# Altium footprint library WE-SUKW.PcbLib: 2 footprints
Each footprint in its own frame and in the unit in brackets; x right, y up, seen from the top. Pads: shape width x height; smd on the part's side, far side on the other; paste and mask are expansions set on the pad; w line width, h text height; cw(c..) or ccw(c..) is an arc to the next point about the centre after c.
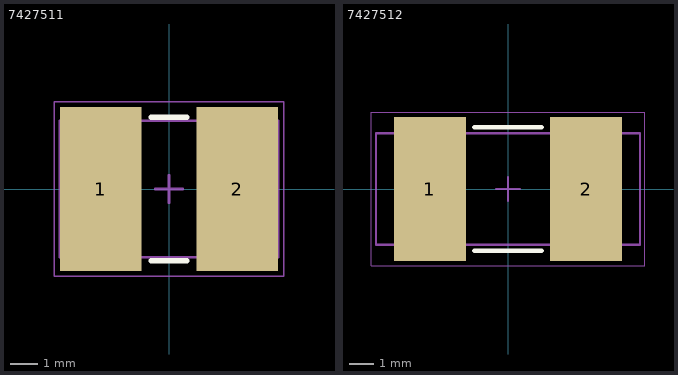
[diagram p0: the footprints below, top view; thin cyan lines are the x and y axes]

## 7427511 [mm] "SMD EMI Suppression Ferrite Bead, body 8.00x5.00mm"
height 5.1
pads (2):
  rect 3x6 smd: 1(-2.5,0) 2(2.5,0)
Top Overlay:
  lines w0.2: -0.65,-2.625 0.65,-2.625 ; -0.65,2.625 0.65,2.625
Top Assembly:
  lines w0.1: -4,-2.5 -4,2.5 4,2.5 4,-2.5 -4,-2.5
Top Designator:
  text ".Designator" at -3.647,-0.357 h1
Top 3D Body:
  lines w0.1: -4,-2.5 -4,2.5 4,2.5 4,-2.5 -4,-2.5
Top Courtyard:
  lines w0.05: -4.2,-3.2 -4.2,3.2 4.2,3.2 4.2,-3.2 -4.2,-3.2
Top Component Center:
  lines w0.1: -0.5,0 0.5,0 ; 0,-0.5 0,0.5
3D body "7427511.stp": height 4.85, standoff 0, extent -4,-2.5 4,2.5

## 7427512 [mm] "SMD EMI Suppression Ferrite Bead, body 11x5.00mm"
height 5.15
pads (2):
  rect 3x6 smd: 1(-3.25,0) 2(3.25,0)
Top Overlay:
  lines w0.2: -1.4,-2.575 1.4,-2.575 ; -1.4,2.575 1.4,2.575
Top Assembly:
  lines w0.1: -5.5,-2.325 5.5,-2.325 5.5,2.325 -5.5,2.325 -5.5,-2.325
Top Designator:
  text ".Designator" at -3.647,-0.357 h1
Top 3D Body:
  lines w0.1: -5.5,-2.325 5.5,-2.325 5.5,2.325 -5.5,2.325 -5.5,-2.325
Top Courtyard:
  lines w0.05: -5.7,-3.2 -5.7,3.2 5.7,3.2 5.7,-3.2 -5.7,-3.2
Top Component Center:
  lines w0.1: -0.5,0 0.5,0 ; 0,-0.5 0,0.5
3D body "7427512.stp": height 5.25, standoff 0, extent -5.5,-2.325 5.5,2.325